# Altium schematic symbol library smartcar_lib.SchLib: 101 symbols
Pins are listed as number, name and electrical type; pins without a type are passive.

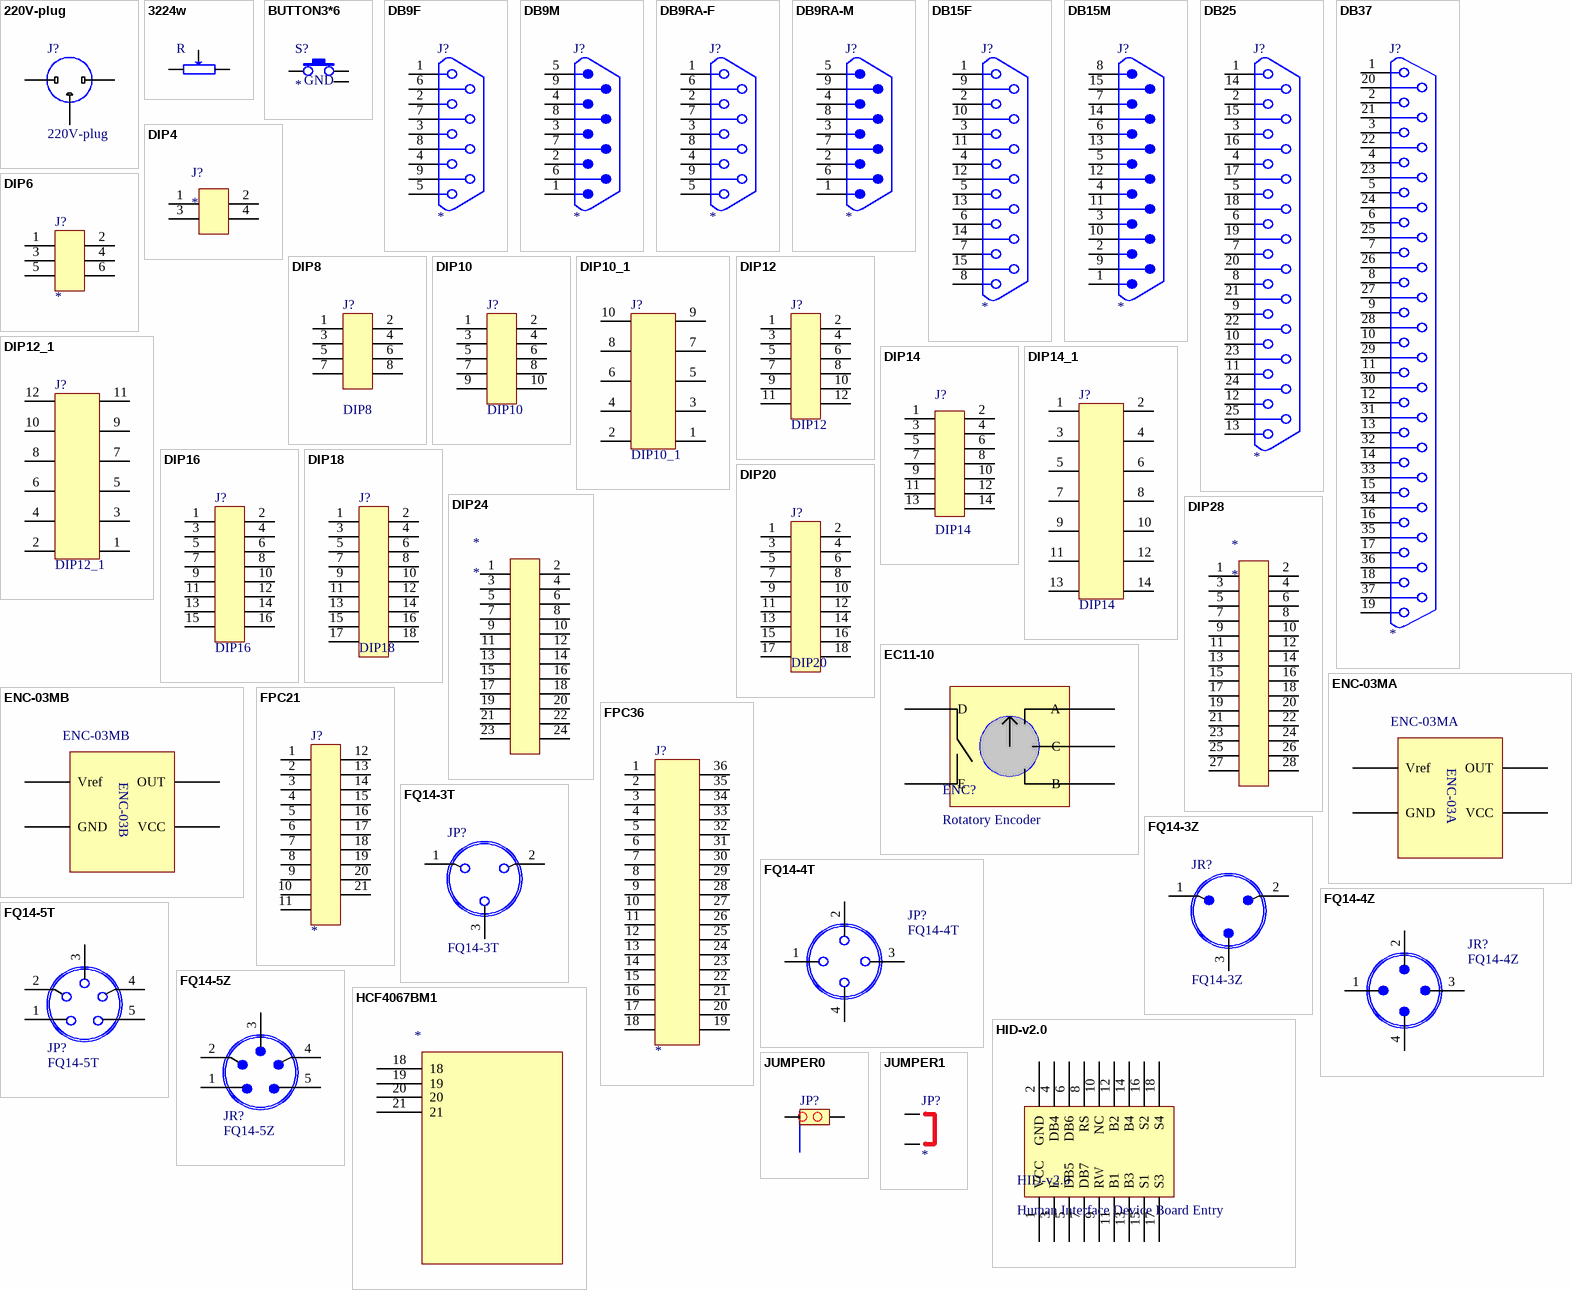
[diagram p0: symbols 220V-plug to JUMPER1]

## 220V-plug
designator J?
pins: 1, 2, 3

## 3224w
designator R, comment R  (value not drawn)
footprint 3224w
footprint 3303x
pins: 1, 2, 3

## BUTTON3*6
designator S?
footprint BUTTON3*6
pins: 1, 2, 3
text: GND

## DB9F
designator J?
jointbar
footprint DB9F
pins: 1, 2, 3, 4, 5, 6, 7, 8, 9

## DB9M
designator J?
jointbar
footprint DB9M
pins: 1 5, 2 4, 3, 4 2, 5 1, 6 9, 7 8, 8 7, 9 6

## DB9RA-F
designator J?
jointbar
footprint DB9RA-F
pins: 1, 2, 3, 4, 5, 6, 7, 8, 9

## DB9RA-M
designator J?
jointbar
footprint DB9RA-M
pins: 1 5, 2 4, 3, 4 2, 5 1, 6 9, 7 8, 8 7, 9 6

## DB15F
designator J?
jointbar
footprint DB15F
pins: 1, 2, 3, 4, 5, 6, 7, 8, 9, 10, 11, 12, 13, 14, 15

## DB15M
designator J?
jointbar
footprint DB15M
pins: 1, 2, 3, 4, 5, 6, 7, 8, 9, 10, 11, 12, 13, 14, 15

## DB25
designator J?
footprint DB-25/M
pins: 1, 2, 3, 4, 5, 6, 7, 8, 9, 10, 11, 12, 13, 14, 15, 16, 17, 18, 19, 20, 21, 22, 23, 24, 25

## DB37
designator J?
footprint DB-37/M
pins: 1, 2, 3, 4, 5, 6, 7, 8, 9, 10, 11, 12, 13, 14, 15, 16, 17, 18, 19, 20, 21, 22, 23, 24, 25, 26, 27, 28, 29, 30, 31, 32, 33, 34, 35, 36, 37

## DIP4
designator J?
footprint DIP4-2.54
pins: 1, 2, 3, 4

## DIP6
designator J?
jointbar
footprint DIP6-2.54
pins: 1, 2, 3, 4, 5, 6

## DIP8
designator J?
Connectors; Set Position: 0.5; Published: 8-Jun-2000; LatestRevisionDate: 17-Jul-2002; LatestRevisionNote: Re-released for DXP Platform.; PackageReference: AXIAL-0.6; Publisher: Altium Limited
footprint DIP8-2.54 (Footprint not found)
pins: 1, 2, 3, 4, 5, 6, 7, 8

## DIP10
designator J?
Connectors; Set Position: 0.5; Published: 8-Jun-2000; LatestRevisionDate: 17-Jul-2002; LatestRevisionNote: Re-released for DXP Platform.; PackageReference: AXIAL-0.6; Publisher: Altium Limited
footprint DIP10-2.54
pins: 1, 2, 3, 4, 5, 6, 7, 8, 9, 10

## DIP10_1
designator J?
Connectors; Set Position: 0.5; Published: 8-Jun-2000; LatestRevisionDate: 17-Jul-2002; LatestRevisionNote: Re-released for DXP Platform.; PackageReference: AXIAL-0.6; Publisher: Altium Limited
simulation model VRES (Variable Resistor)
signal-integrity model Res Adj
footprint DIP14-2.54
pins: 1, 2, 3, 4, 5, 6, 7, 8, 9, 10

## DIP12
designator J?
Connectors; Set Position: 0.5; Published: 8-Jun-2000; LatestRevisionDate: 17-Jul-2002; LatestRevisionNote: Re-released for DXP Platform.; PackageReference: AXIAL-0.6; Publisher: Altium Limited
simulation model VRES (Variable Resistor)
signal-integrity model Res Adj
footprint DIP12-2.54
pins: 1, 2, 3, 4, 5, 6, 7, 8, 9, 10, 11, 12

## DIP12_1
designator J?
Connectors; Set Position: 0.5; Published: 8-Jun-2000; LatestRevisionDate: 17-Jul-2002; LatestRevisionNote: Re-released for DXP Platform.; PackageReference: AXIAL-0.6; Publisher: Altium Limited
simulation model VRES (Variable Resistor)
signal-integrity model Res Adj
footprint DIP14-2.54
pins: 1, 2, 3, 4, 5, 6, 7, 8, 9, 10, 11, 12

## DIP14
designator J?
Connectors; Set Position: 0.5; Published: 8-Jun-2000; LatestRevisionDate: 17-Jul-2002; LatestRevisionNote: Re-released for DXP Platform.; PackageReference: AXIAL-0.6; Publisher: Altium Limited
simulation model VRES (Variable Resistor)
signal-integrity model Res Adj
footprint DIP14-2.54
pins: 1, 2, 3, 4, 5, 6, 7, 8, 9, 10, 11, 12, 13, 14

## DIP14_1
designator J?, comment DIP14
Connectors; Set Position: 0.5; Published: 8-Jun-2000; LatestRevisionDate: 17-Jul-2002; LatestRevisionNote: Re-released for DXP Platform.; PackageReference: AXIAL-0.6; Publisher: Altium Limited
simulation model VRES (Variable Resistor)
signal-integrity model Res Adj
footprint DIP14-2.54
pins: 1, 2, 3, 4, 5, 6, 7, 8, 9, 10, 11, 12, 13, 14

## DIP16
designator J?
Connectors; Set Position: 0.5; Published: 8-Jun-2000; LatestRevisionDate: 17-Jul-2002; LatestRevisionNote: Re-released for DXP Platform.; PackageReference: AXIAL-0.6; Publisher: Altium Limited
simulation model VRES (Variable Resistor)
signal-integrity model Res Adj
footprint DIP16-2.54
pins: 1, 2, 3, 4, 5, 6, 7, 8, 9, 10, 11, 12, 13, 14, 15, 16

## DIP18
designator J?
Connectors; Set Position: 0.5; Published: 8-Jun-2000; LatestRevisionDate: 17-Jul-2002; LatestRevisionNote: Re-released for DXP Platform.; PackageReference: AXIAL-0.6; Publisher: Altium Limited
simulation model VRES (Variable Resistor)
signal-integrity model Res Adj
footprint DIP18-2.54 (Footprint not found)
pins: 1, 2, 3, 4, 5, 6, 7, 8, 9, 10, 11, 12, 13, 14, 15, 16, 17, 18

## DIP20
designator J?
Connectors; Set Position: 0.5; Published: 8-Jun-2000; LatestRevisionDate: 17-Jul-2002; LatestRevisionNote: Re-released for DXP Platform.; PackageReference: AXIAL-0.6; Publisher: Altium Limited
simulation model VRES (Variable Resistor)
signal-integrity model Res Adj
footprint DIP20-2.54
pins: 1, 2, 3, 4, 5, 6, 7, 8, 9, 10, 11, 12, 13, 14, 15, 16, 17, 18

## DIP24
designator *
footprint DIP24-2.54
pins: 1, 2, 3, 4, 5, 6, 7, 8, 9, 10, 11, 12, 13, 14, 15, 16, 17, 18, 19, 20, 21, 22, 23, 24

## DIP28
designator *
Connectors
footprint DIP28-2.54
pins: 1, 2, 3, 4, 5, 6, 7, 8, 9, 10, 11, 12, 13, 14, 15, 16, 17, 18, 19, 20, 21, 22, 23, 24, 25, 26, 27, 28

## EC11-10
designator ENC?, comment Rotatory Encoder
footprint EC11-10
pins: A, B, C, D, E

## ENC-03MA
designator ENC-03MA  (value not drawn)
footprint ENC-03MA
pins: 1 Vref, 2 GND, 3 VCC, 4 OUT
text: ENC-03A

## ENC-03MB
designator ENC-03MB  (value not drawn)
footprint ENC-03MB
pins: 1 Vref, 2 GND, 3 VCC, 4 OUT
text: ENC-03B

## FPC21
designator J?
jointbar
footprint FPC21-0.5
pins: 1, 2, 3, 4, 5, 6, 7, 8, 9, 10  10, 11  11, 12, 13, 14, 15, 16, 17, 18, 19, 20, 21

## FPC36
designator J?
jointbar
footprint FPC36-0.8
pins: 1, 2, 3, 4, 5, 6, 7, 8, 9, 10, 11, 12, 13, 14, 15, 16, 17, 18, 19, 20, 21, 22, 23, 24, 25, 26, 27, 28, 29, 30, 31, 32, 33, 34, 35, 36

## FQ14-3T
designator JP?
Connectors; Set Position: 0.5; Published: 8-Jun-2000; LatestRevisionDate: 17-Jul-2002; LatestRevisionNote: Re-released for DXP Platform.; PackageReference: AXIAL-0.6; Publisher: Altium Limited
footprint AXIAL-0.6 (Variable Resistor; 2 Leads)
simulation model VRES (Variable Resistor)
signal-integrity model Res Adj
pins: 1, 2, 3

## FQ14-3Z
designator JR?
Connectors; Set Position: 0.5; Published: 8-Jun-2000; LatestRevisionDate: 17-Jul-2002; LatestRevisionNote: Re-released for DXP Platform.; PackageReference: AXIAL-0.6; Publisher: Altium Limited
footprint AXIAL-0.6 (Variable Resistor; 2 Leads)
simulation model VRES (Variable Resistor)
signal-integrity model Res Adj
pins: 1, 2, 3

## FQ14-4T
designator JP?
connectors; Set Position: 0.5; Published: 8-Jun-2000; LatestRevisionDate: 17-Jul-2002; LatestRevisionNote: Re-released for DXP Platform.; PackageReference: AXIAL-0.6; Publisher: Altium Limited
footprint AXIAL-0.6 (Variable Resistor; 2 Leads)
simulation model VRES (Variable Resistor)
signal-integrity model Res Adj
pins: 1, 2, 3, 4

## FQ14-4Z
designator JR?
connectors; Set Position: 0.5; Published: 8-Jun-2000; LatestRevisionDate: 17-Jul-2002; LatestRevisionNote: Re-released for DXP Platform.; PackageReference: AXIAL-0.6; Publisher: Altium Limited
footprint AXIAL-0.6 (Variable Resistor; 2 Leads)
simulation model VRES (Variable Resistor)
signal-integrity model Res Adj
pins: 1, 2, 3, 4

## FQ14-5T
designator JP?
connectors; Set Position: 0.5; Published: 8-Jun-2000; LatestRevisionDate: 17-Jul-2002; LatestRevisionNote: Re-released for DXP Platform.; PackageReference: AXIAL-0.6; Publisher: Altium Limited
footprint AXIAL-0.6 (Variable Resistor; 2 Leads)
simulation model VRES (Variable Resistor)
signal-integrity model Res Adj
pins: 1, 2, 3, 4, 5

## FQ14-5Z
designator JR?
connectors; Set Position: 0.5; Published: 8-Jun-2000; LatestRevisionDate: 17-Jul-2002; LatestRevisionNote: Re-released for DXP Platform.; PackageReference: AXIAL-0.6; Publisher: Altium Limited
footprint AXIAL-0.6 (Variable Resistor; 2 Leads)
simulation model VRES (Variable Resistor)
signal-integrity model Res Adj
pins: 1, 2, 3, 4, 5

## HCF4067BM1
designator *  (value not drawn)
pins: 18, 19, 20, 21

## HID-v2.0
designator HID-v2.0, comment Human Interface Device Board Entry
HID-v2.0
footprint HID-v2.0 (Connector; Header; 9x2 Position)
pins: 1 VCC, 2 GND, 3 E, 4 DB4, 5 DB5, 6 DB6, 7 DB7, 8 RS, 9 RW, 10 NC, 11 B1, 12 B2, 13 B3, 14 B4, 15 S1, 16 S2, 17 S3, 18 S4

## JUMPER0
designator JP?
footprint SIP2-2.54
pins: 1, 2

## JUMPER1
designator JP?
Jumper
footprint RAD0.2
pins: 1, 2

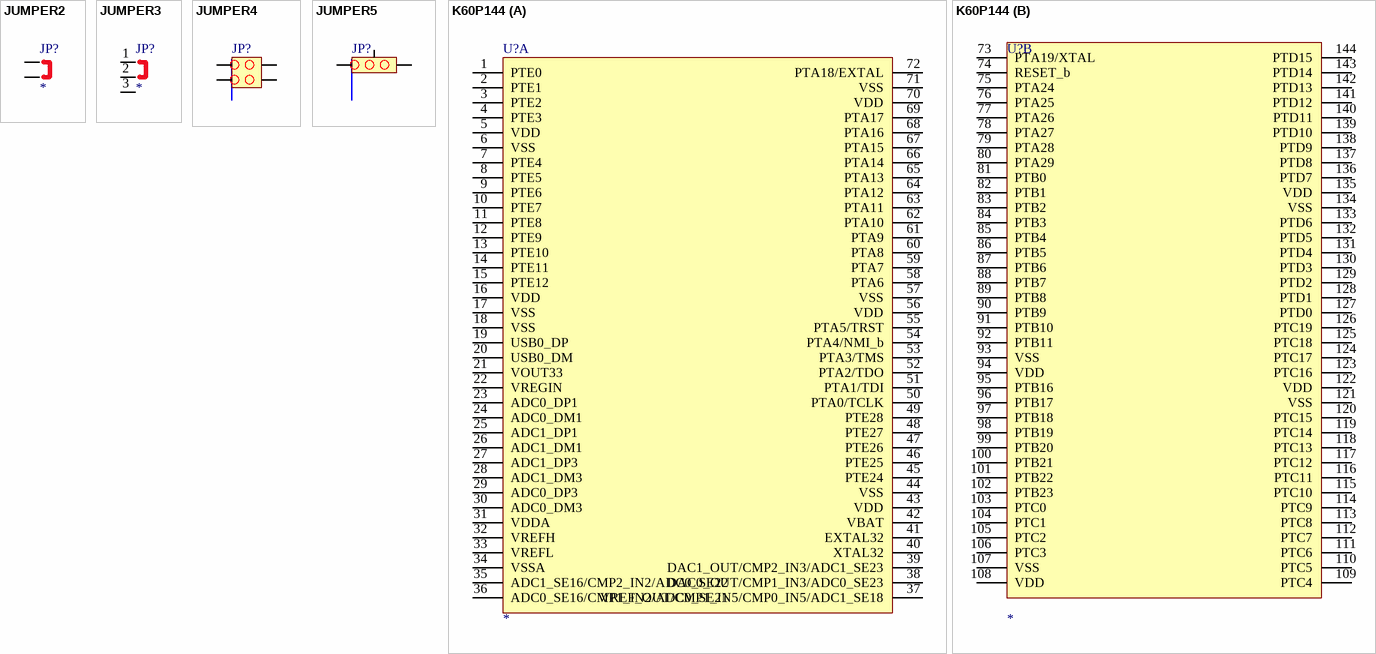
[diagram p1: symbols JUMPER2 to K60P144]

## JUMPER2
designator JP?
Jumper
footprint RAD0.2
pins: 1, 2

## JUMPER3
designator JP?
Jumper
footprint SIP3-2.54
pins: 1, 2, 3

## JUMPER4
designator JP?
footprint DIP4-2.54 (Footprint not found)
pins: 1, 2, 3, 4

## JUMPER5
designator JP?
footprint SIP3-2.54
pins: 1, 2, 3

## K60P144
designator U?
footprint LQ_LQFP144
part A pins: 1 PTE0, 2 PTE1, 3 PTE2, 4 PTE3, 5 VDD, 6 VSS, 7 PTE4, 8 PTE5, 9 PTE6, 10 PTE7, 11 PTE8, 12 PTE9, 13 PTE10, 14 PTE11, 15 PTE12, 16 VDD, 17 VSS, 18 VSS, 19 USB0_DP, 20 USB0_DM, 21 VOUT33, 22 VREGIN, 23 ADC0_DP1, 24 ADC0_DM1, 25 ADC1_DP1, 26 ADC1_DM1, 27 ADC1_DP3, 28 ADC1_DM3, 29 ADC0_DP3, 30 ADC0_DM3, 31 VDDA, 32 VREFH, 33 VREFL, 34 VSSA, 35 ADC1_SE16/CMP2_IN2/ADC0_SE22, 36 ADC0_SE16/CMP1_IN2/ADC0_SE21, 37 VREF_OUT/CMP1_IN5/CMP0_IN5/ADC1_SE18, 38 DAC0_OUT/CMP1_IN3/ADC0_SE23, 39 DAC1_OUT/CMP2_IN3/ADC1_SE23, 40 XTAL32, 41 EXTAL32, 42 VBAT, 43 VDD, 44 VSS, 45 PTE24, 46 PTE25, 47 PTE26, 48 PTE27, 49 PTE28, 50 PTA0/TCLK, 51 PTA1/TDI, 52 PTA2/TDO, 53 PTA3/TMS, 54 PTA4/NMI_b, 55 PTA5/TRST, 56 VDD, 57 VSS, 58 PTA6, 59 PTA7, 60 PTA8, 61 PTA9, 62 PTA10, 63 PTA11, 64 PTA12, 65 PTA13, 66 PTA14, 67 PTA15, 68 PTA16, 69 PTA17, 70 VDD, 71 VSS, 72 PTA18/EXTAL
part B pins: 73 PTA19/XTAL, 74 RESET_b, 75 PTA24, 76 PTA25, 77 PTA26, 78 PTA27, 79 PTA28, 80 PTA29, 81 PTB0, 82 PTB1, 83 PTB2, 84 PTB3, 85 PTB4, 86 PTB5, 87 PTB6, 88 PTB7, 89 PTB8, 90 PTB9, 91 PTB10, 92 PTB11, 93 VSS, 94 VDD, 95 PTB16, 96 PTB17, 97 PTB18, 98 PTB19, 99 PTB20, 100 PTB21, 101 PTB22, 102 PTB23, 103 PTC0, 104 PTC1, 105 PTC2, 106 PTC3, 107 VSS, 108 VDD, 109 PTC4, 110 PTC5, 111 PTC6, 112 PTC7, 113 PTC8, 114 PTC9, 115 PTC10, 116 PTC11, 117 PTC12, 118 PTC13, 119 PTC14, 120 PTC15, 121 VSS, 122 VDD, 123 PTC16, 124 PTC17, 125 PTC18, 126 PTC19, 127 PTD0, 128 PTD1, 129 PTD2, 130 PTD3, 131 PTD4, 132 PTD5, 133 PTD6, 134 VSS, 135 VDD, 136 PTD7, 137 PTD8, 138 PTD9, 139 PTD10, 140 PTD11, 141 PTD12, 142 PTD13, 143 PTD14, 144 PTD15

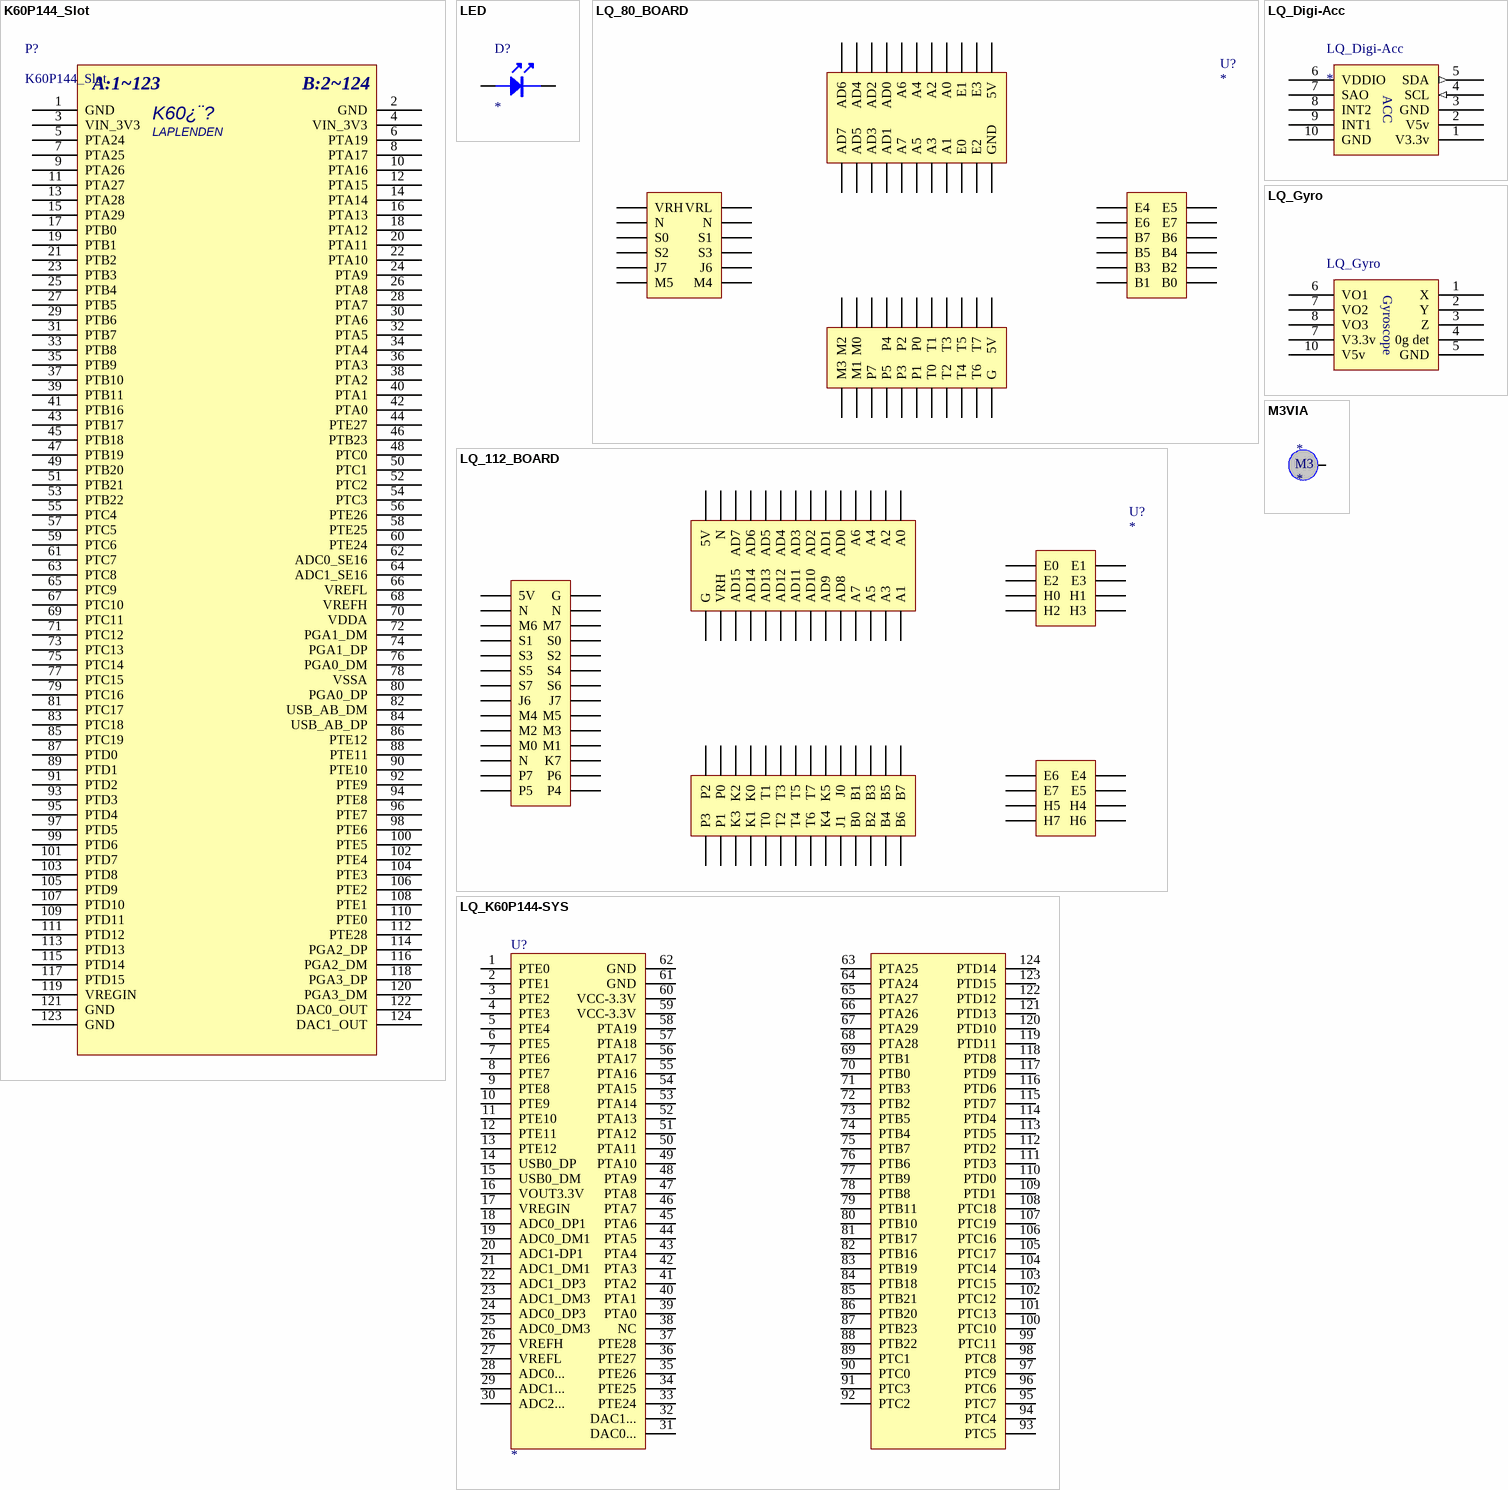
[diagram p2: symbols K60P144_Slot to M3VIA]

## K60P144_Slot
designator P?
footprint K60P144_Slot
pins: 1 GND, 2 GND, 3 VIN_3V3, 4 VIN_3V3, 5 PTA24, 6 PTA19, 7 PTA25, 8 PTA17, 9 PTA26, 10 PTA16, 11 PTA27, 12 PTA15, 13 PTA28, 14 PTA14, 15 PTA29, 16 PTA13, 17 PTB0, 18 PTA12, 19 PTB1, 20 PTA11, 21 PTB2, 22 PTA10, 23 PTB3, 24 PTA9, 25 PTB4, 26 PTA8, 27 PTB5, 28 PTA7, 29 PTB6, 30 PTA6, 31 PTB7, 32 PTA5, 33 PTB8, 34 PTA4, 35 PTB9, 36 PTA3, 37 PTB10, 38 PTA2, 39 PTB11, 40 PTA1, 41 PTB16, 42 PTA0, 43 PTB17, 44 PTE27, 45 PTB18, 46 PTB23, 47 PTB19, 48 PTC0, 49 PTB20, 50 PTC1, 51 PTB21, 52 PTC2, 53 PTB22, 54 PTC3, 55 PTC4, 56 PTE26, 57 PTC5, 58 PTE25, 59 PTC6, 60 PTE24, 61 PTC7, 62 ADC0_SE16, 63 PTC8, 64 ADC1_SE16, 65 PTC9, 66 VREFL, 67 PTC10, 68 VREFH, 69 PTC11, 70 VDDA, 71 PTC12, 72 PGA1_DM, 73 PTC13, 74 PGA1_DP, 75 PTC14, 76 PGA0_DM, 77 PTC15, 78 VSSA, 79 PTC16, 80 PGA0_DP, 81 PTC17, 82 USB_AB_DM, 83 PTC18, 84 USB_AB_DP, 85 PTC19, 86 PTE12, 87 PTD0, 88 PTE11, 89 PTD1, 90 PTE10, 91 PTD2, 92 PTE9, 93 PTD3, 94 PTE8, 95 PTD4, 96 PTE7, 97 PTD5, 98 PTE6, 99 PTD6, 100 PTE5, 101 PTD7, 102 PTE4, 103 PTD8, 104 PTE3, 105 PTD9, 106 PTE2, 107 PTD10, 108 PTE1, 109 PTD11, 110 PTE0, 111 PTD12, 112 PTE28, 113 PTD13, 114 PGA2_DP, 115 PTD14, 116 PGA2_DM, 117 PTD15, 118 PGA3_DP, 119 VREGIN, 120 PGA3_DM, 121 GND, 122 DAC0_OUT, 123 GND, 124 DAC1_OUT
text: A:1~123; B:2~124; K60¿¨?; LAPLENDEN

## LED
designator D?
footprint DIODE0.4A
pins: 1, 2

## LQ_80_BOARD
designator U?
LQ_80_BOARD
footprint LQ_80_BOARD
pins: 101 M3, 102 M2, 103 M1, 104 M0, 105 P7, 106, 107 P5, 108 P4, 109 P3, 110 P2, 111 P1, 112 P0, 113 T0, 114 T1, 115 T2, 116 T3, 117 T4, 118 T5, 119 T6, 120 T7, 121 G, 122 5V, 201 VRH, 202 VRL, 203 N, 204 N, 205 S0, 206 S1, 207 S2, 208 S3, 209 J7, 210 J6, 211 M5, 212 M4, 301 5V, 302 GND, 303 E3, 304 E2, 305 E1, 306 E0, 307 A0, 308 A1, 309 A2, 310 A3, 311 A4, 312 A5, 313 A6, 314 A7, 315 AD0, 316 AD1, 317 AD2, 318 AD3, 319 AD4, 320 AD5, 321 AD6, 322 AD7, 401 B0, 402 B1, 403 B2, 404 B3, 405 B4, 406 B5, 407 B6, 408 B7, 409 E7, 410 E6, 411 E5, 412 E4

## LQ_112_BOARD
designator U?
LQ_112_BOARD
footprint LQ_112_BOARD
pins: 101 P3, 102 P2, 103 P1, 104 P0, 105 K3, 106 K2, 107 K1, 108 K0, 109 T0, 110 T1, 111 T2, 112 T3, 113 T4, 114 T5, 115 T6, 116 T7, 117 K4, 118 K5, 119 J1, 120 J0, 121 B0, 122 B1, 123 B2, 124 B3, 125 B4, 126 B5, 127 B6, 128 B7, 201 5V, 202 G, 203 N, 204 N, 205 M6, 206 M7, 207 S1, 208 S0, 209 S3, 210 S2, 211 S5, 212 S4, 213 S7, 214 S6, 215 J6, 216 J7, 217 M4, 218 M5, 219 M2, 220 M3, 221 M0, 222 M1, 223 N, 224 K7, 225 P7, 226 P6, 227 P5, 228 P4, 301 A0, 302 A1, 303 A2, 304 A3, 305 A4, 306 A5, 307 A6, 308 A7, 309 AD0, 310 AD8, 311 AD1, 312 AD9, 313 AD2, 314 AD10, 315 AD3, 316 AD11, 317 AD4, 318 AD12, 319 AD5, 320 AD13, 321 AD6, 322 AD14, 323 AD7, 324 AD15, 325 N, 326 VRH, 327 5V, 328 G, 401 H6, 402 H7, 403 H4, 404 H5, 405 E5, 406 E7, 407 E4, 408 E6, 501 H3, 502 H2, 503 H1, 504 H0, 505 E3, 506 E2, 507 E1, 508 E0

## LQ_Digi-Acc
designator LQ_Digi-Acc
LQ_Digi-Acc
footprint LQ_Digi-Acc
pins: 1 V3.3v, 2 V5v, 3 GND (power), 4 SCL (in), 5 SDA (out), 6 VDDIO, 7 SAO, 8 INT2, 9 INT1, 10 GND
text: ACC

## LQ_Gyro
designator LQ_Gyro  (value not drawn)
footprint LQ_Gyro
pins: 1 X, 2 Y, 3 Z, 4 0g det, 5 GND, 6 VO1, 7 VO2, 7 V3.3v, 8 VO3, 10 V5v
text: Gyroscope

## LQ_K60P144-SYS
designator U?
footprint LQ_K60P144-SYS
pins: 1 PTE0, 2 PTE1, 3 PTE2, 4 PTE3, 5 PTE4, 6 PTE5, 7 PTE6, 8 PTE7, 9 PTE8, 10 PTE9, 11 PTE10, 12 PTE11, 13 PTE12, 14 USB0_DP, 15 USB0_DM, 16 VOUT3.3V, 17 VREGIN, 18 ADC0_DP1, 19 ADC0_DM1, 20 ADC1-DP1, 21 ADC1_DM1, 22 ADC1_DP3, 23 ADC1_DM3, 24 ADC0_DP3, 25 ADC0_DM3, 26 VREFH, 27 VREFL, 28 ADC0..., 29 ADC1..., 30 ADC2..., 31 DAC0..., 32 DAC1..., 33 PTE24, 34 PTE25, 35 PTE26, 36 PTE27, 37 PTE28, 38 NC, 39 PTA0, 40 PTA1, 41 PTA2, 42 PTA3, 43 PTA4, 44 PTA5, 45 PTA6, 46 PTA7, 47 PTA8, 48 PTA9, 49 PTA10, 50 PTA11, 51 PTA12, 52 PTA13, 53 PTA14, 54 PTA15, 55 PTA16, 56 PTA17, 57 PTA18, 58 PTA19, 59 VCC-3.3V, 60 VCC-3.3V, 61 GND, 62 GND, 63 PTA25, 64 PTA24, 65 PTA27, 66 PTA26, 67 PTA29, 68 PTA28, 69 PTB1, 70 PTB0, 71 PTB3, 72 PTB2, 73 PTB5, 74 PTB4, 75 PTB7, 76 PTB6, 77 PTB9, 78 PTB8, 79 PTB11, 80 PTB10, 81 PTB17, 82 PTB16, 83 PTB19, 84 PTB18, 85 PTB21, 86 PTB20, 87 PTB23, 88 PTB22, 89 PTC1, 90 PTC0, 91 PTC3, 92 PTC2, 93 PTC5, 94 PTC4, 95 PTC7, 96 PTC6, 97 PTC9, 98 PTC8, 99 PTC11, 100 PTC10, 101 PTC13, 102 PTC12, 103 PTC15, 104 PTC14, 105 PTC17, 106 PTC16, 107 PTC19, 108 PTC18, 109 PTD1, 110 PTD0, 111 PTD3, 112 PTD2, 113 PTD5, 114 PTD4, 115 PTD7, 116 PTD6, 117 PTD9, 118 PTD8, 119 PTD11, 120 PTD10, 121 PTD13, 122 PTD12, 123 PTD15, 124 PTD14

## M3VIA
designator *
footprint gudingkong
footprint gudingkong01
pins: 0
text: M3

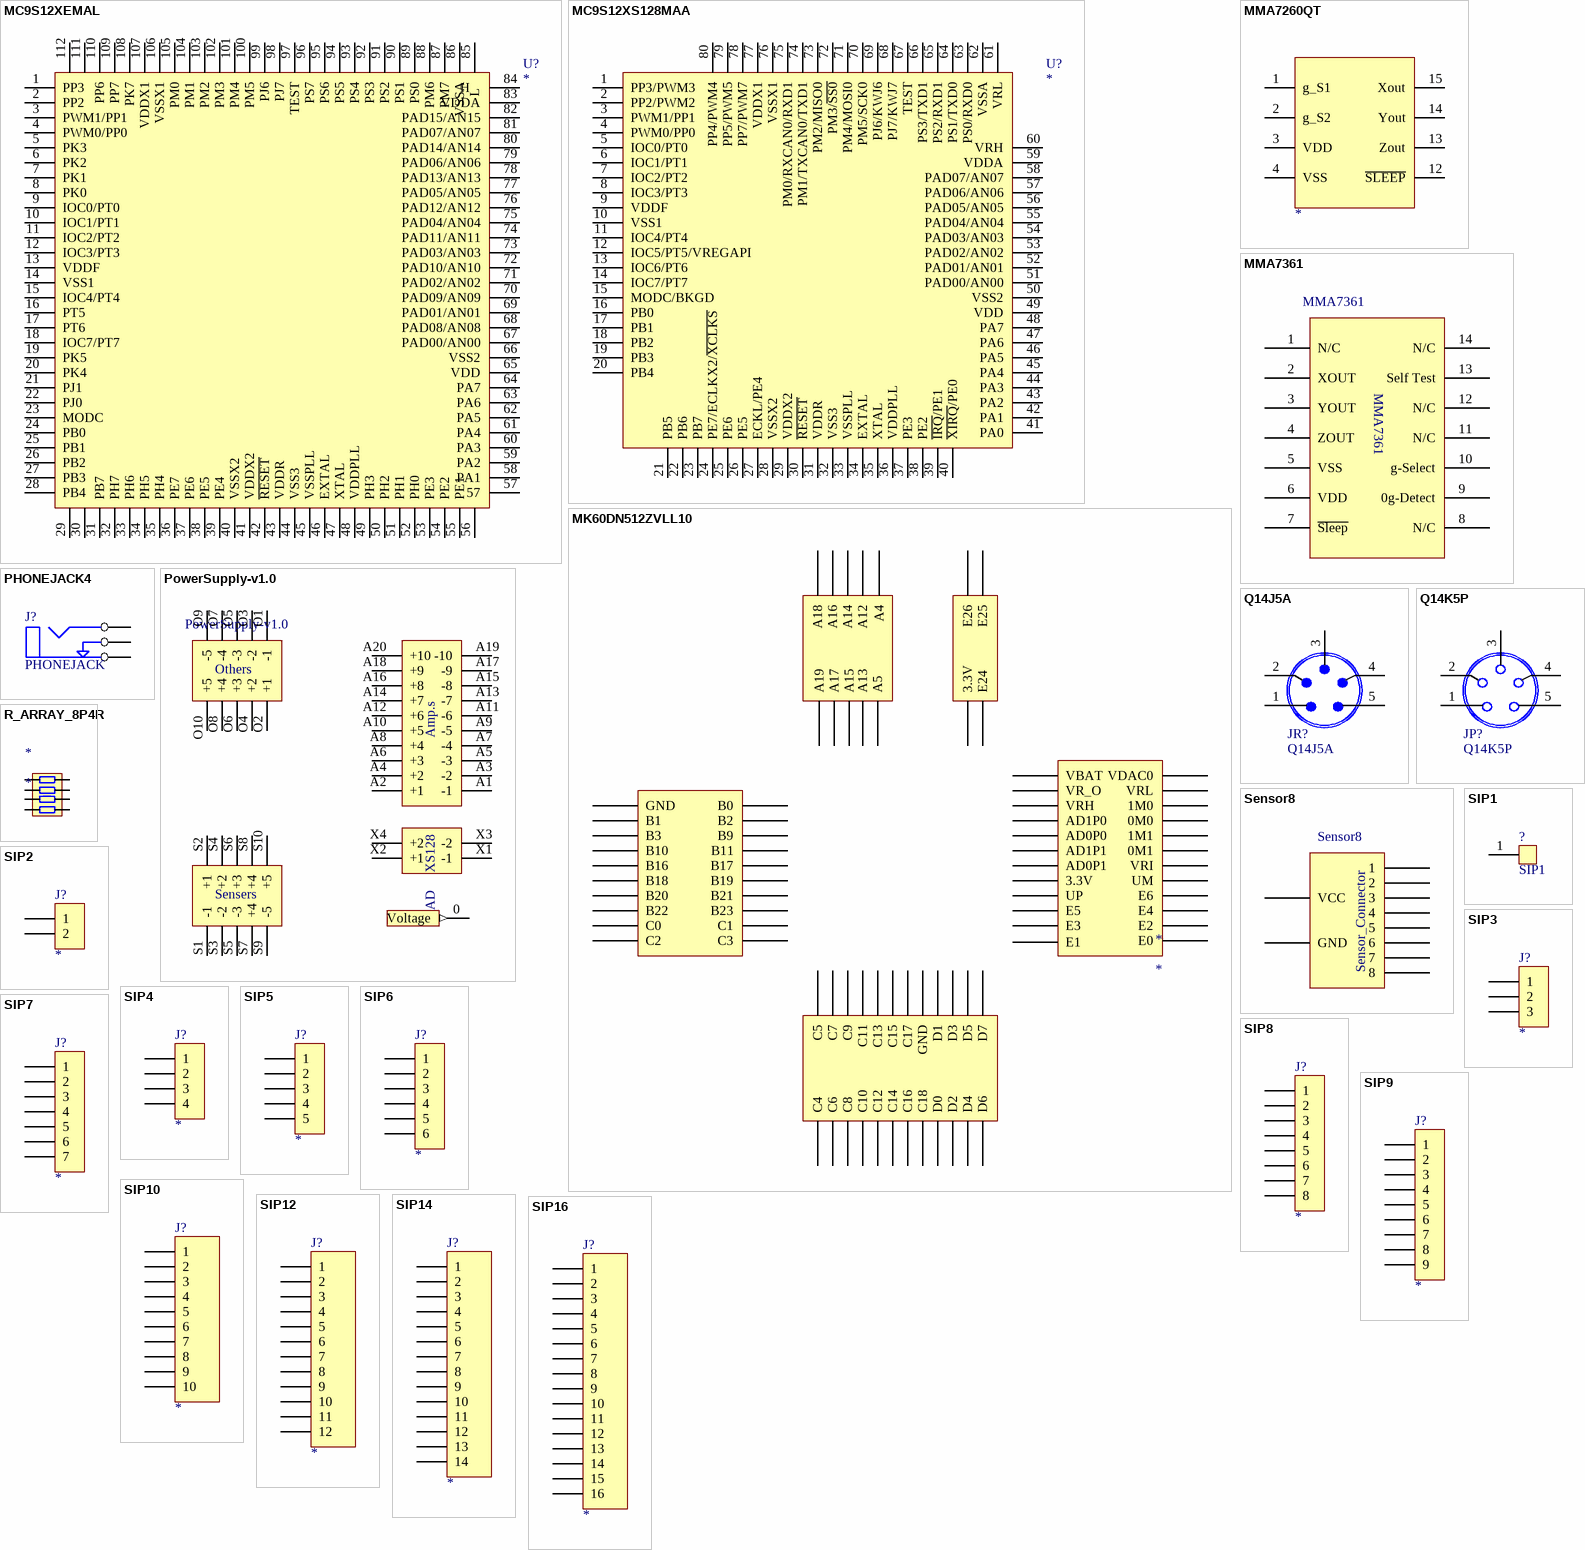
[diagram p3: symbols MC9S12XEMAL to SIP16]

## MC9S12XEMAL
designator U?
MC9S12XEMAL
footprint LQ_LQFP112
pins: 1 PP3, 2 PP2, 3 PWM1/PP1, 4 PWM0/PP0, 5 PK3, 6 PK2, 7 PK1, 8 PK0, 9 IOC0/PT0, 10 IOC1/PT1, 11 IOC2/PT2, 12 IOC3/PT3, 13 VDDF, 14 VSS1, 15 IOC4/PT4, 16 PT5, 17 PT6, 18 IOC7/PT7, 19 PK5, 20 PK4, 21 PJ1, 22 PJ0, 23 MODC, 24 PB0, 25 PB1, 26 PB2, 27 PB3, 28 PB4, 29, 30, 31 PB7, 32 PH7, 33 PH6, 34 PH5, 35 PH4, 36 PE7, 37 PE6, 38 PE5, 39 PE4, 40 VSSX2, 41 VDDX2, 42 ~{RESET}, 43 VDDR, 44 VSS3, 45 VSSPLL, 46 EXTAL, 47 XTAL, 48 VDDPLL, 49 PH3, 50 PH2, 51 PH1, 52 PH0, 53 PE3, 54 PE2, 55 PE1, 56, 57, 58 PA1, 59 PA2, 60 PA3, 61 PA4, 62 PA5, 63 PA6, 64 PA7, 65 VDD, 66 VSS2, 67 PAD00/AN00, 68 PAD08/AN08, 69 PAD01/AN01, 70 PAD09/AN09, 71 PAD02/AN02, 72 PAD10/AN10, 73 PAD03/AN03, 74 PAD11/AN11, 75 PAD04/AN04, 76 PAD12/AN12, 77 PAD05/AN05, 78 PAD13/AN13, 79 PAD06/AN06, 80 PAD14/AN14, 81 PAD07/AN07, 82 PAD15/AN15, 83 VDDA, 84 H   , 85 L  , 86 VSSA, 87 PM7, 88 PM6, 89 PS0, 90 PS1, 91 PS2, 92 PS3, 93 PS4, 94 PS5, 95 PS6, 96 PS7, 97 TEST, 98 PJ7, 99 PJ6, 100 PM5, 101 PM4, 102 PM3, 103 PM2, 104 PM1, 105 PM0, 106 VSSX1, 107 VDDX1, 108 PK7, 109 PP7, 110 PP6, 111, 112

## MC9S12XS128MAA
designator U?
footprint LQ_LQFP80
pins: 1 PP3/PWM3, 2 PP2/PWM2, 3 PWM1/PP1, 4 PWM0/PP0, 5 IOC0/PT0, 6 IOC1/PT1, 7 IOC2/PT2, 8 IOC3/PT3, 9 VDDF, 10 VSS1, 11 IOC4/PT4, 12 IOC5/PT5/VREGAPI, 13 IOC6/PT6, 14 IOC7/PT7, 15 MODC/BKGD, 16 PB0, 17 PB1, 18 PB2, 19 PB3, 20 PB4, 21 PB5, 22 PB6, 23 PB7, 24 PE7/ECLKX2/~{XCLKS}, 25 PE6, 26 PE5, 27 ECKL/PE4, 28 VSSX2, 29 VDDX2, 30 ~{RESET}, 31 VDDR, 32 VSS3, 33 VSSPLL, 34 EXTAL, 35 XTAL, 36 VDDPLL, 37 PE3, 38 PE2, 39 ~{IRQ}/PE1, 40 ~{XIRQ}/PE0, 41 PA0, 42 PA1, 43 PA2, 44 PA3, 45 PA4, 46 PA5, 47 PA6, 48 PA7, 49 VDD, 50 VSS2, 51 PAD00/AN00, 52 PAD01/AN01, 53 PAD02/AN02, 54 PAD03/AN03, 55 PAD04/AN04, 56 PAD05/AN05, 57 PAD06/AN06, 58 PAD07/AN07, 59 VDDA, 60 VRH, 61 VRL, 62 VSSA, 63 PS0/RXD0, 64 PS1/TXD0, 65 PS2/RXD1, 66 PS3/TXD1, 67 TEST, 68 PJ7/KWJ7, 69 PJ6/KWJ6, 70 PM5/SCK0, 71 PM4/MOSI0, 72 PM3/~{SS0}, 73 PM2/MISO0, 74 PM1/TXCAN0/TXD1, 75 PM0/RXCAN0/RXD1, 76 VSSX1, 77 VDDX1, 78 PP7/PWM7, 79 PP5/PWM5, 80 PP4/PWM4

## MK60DN512ZVLL10
designator *
footprint MK60DN512ZVLL10
pins: 1 E0, 2 E1, 3 E2, 4 E3, 5 E4, 6 E5, 7 E6, 8 UP, 9 UM, 10 3.3V, 11 VRI, 12 AD0P1, 13 0M1, 14 AD1P1, 15 1M1, 16 AD0P0, 17 0M0, 18 AD1P0, 19 1M0, 20 VRH, 21 VRL, 22 VR_O, 23 VDAC0, 24 VBAT, 25 E24, 26 E25, 27 3.3V, 28 E26, 29 A5, 30 A4, 31 A13, 32 A12, 33 A15, 34 A14, 35 A17, 36 A16, 37 A19, 38 A18, 39 GND, 40 B0, 41 B1, 42 B2, 43 B3, 44 B9, 45 B10, 46 B11, 47 B16, 48 B17, 49 B18, 50 B19, 51 B20, 52 B21, 53 B22, 54 B23, 55 C0, 56 C1, 57 C2, 58 C3, 59 C4, 60 C5, 61 C6, 62 C7, 63 C8, 64 C9, 65 C10, 66 C11, 67 C12, 68 C13, 69 C14, 70 C15, 71 C16, 72 C17, 73 C18, 74 GND, 75 D0, 76 D1, 77 D2, 78 D3, 79 D4, 80 D5, 81 D6, 82 D7

## MMA7260QT
designator ?
pins: 1 g_S1, 2 g_S2, 3 VDD, 4 VSS, 12 ~{SLEEP}, 13 Zout, 14 Yout, 15 Xout

## MMA7361
designator MMA7361  (value not drawn)
footprint MMA7361
pins: 1 N/C, 2 XOUT, 3 YOUT, 4 ZOUT, 5 VSS, 6 VDD, 7 ~{Sleep}, 8 N/C, 9 0g-Detect, 10 g-Select, 11 N/C, 12 N/C, 13 Self Test, 14 N/C

## PHONEJACK4
designator J?, comment PHONEJACK
footprint DS-313
pins: 1 A, 2 B, 3 C

## PowerSupply-v1.0
designator PowerSupply-v1.0  (value not drawn)
PowerSupply-v1.0
footprint PowerSupply-v1.0
pins: 0 Voltage (out), A1 -1 (power), A2 +1 (power), A3 -2 (power), A4 +2 (power), A5 -3 (power), A6 +3 (power), A7 -4 (power), A8 +4 (power), A9 -5 (power), A10 +5 (power), A11 -6 (power), A12 +6 (power), A13 -7 (power), A14 +7 (power), A15 -8 (power), A16 +8 (power), A17 -9 (power), A18 +9 (power), A19 -10 (power), A20 +10 (power), O1 -1, O2 +1 (power), O3 -2, O4 +2 (power), O5 -3 (power), O6 +3 (power), O7 -4 (power), O8 +4 (power), O9 -5 (power), O10 +5 (power), S1 -1 (power), S2 +1 (power), S3 -2 (power), S4 +2 (power), S5 -3 (power), S6 +3 (power), S7 +4 (power), S8 +4 (power), S9 -5 (power), S10 +5 (power), X1 -1 (power), X2 +1 (power), X3 -2 (power), X4 +2 (power)
text: Others; Amp.s; XS128; Sensers; AD

## Q14J5A
designator JR?
connectors; Set Position: 0.5; Published: 8-Jun-2000; LatestRevisionDate: 17-Jul-2002; LatestRevisionNote: Re-released for DXP Platform.; PackageReference: AXIAL-0.6; Publisher: Altium Limited
footprint AXIAL-0.6 (Variable Resistor; 2 Leads)
simulation model VRES (Variable Resistor)
signal-integrity model Res Adj
pins: 1, 2, 3, 4, 5

## Q14K5P
designator JP?
connectors; Set Position: 0.5; Published: 8-Jun-2000; LatestRevisionDate: 17-Jul-2002; LatestRevisionNote: Re-released for DXP Platform.; PackageReference: AXIAL-0.6; Publisher: Altium Limited
footprint AXIAL-0.6 (Variable Resistor; 2 Leads)
simulation model VRES (Variable Resistor)
signal-integrity model Res Adj
pins: 1, 2, 3, 4, 5

## R_ARRAY_8P4R
designator *
footprint R_ARRAY_8P4R
pins: 1, 2, 3, 4, 5, 6, 7, 8

## Sensor8
designator Sensor8, comment Connector  (value not drawn)
pins: 1, 2, 3, 4, 5, 6, 7, 8, 9 VCC, 10 GND
text: Sensor_Connector

## SIP1
designator ?
Variable Resistor; Set Position: 0.5; Published: 8-Jun-2000; LatestRevisionDate: 17-Jul-2002; LatestRevisionNote: Re-released for DXP Platform.; PackageReference: AXIAL-0.6; Publisher: Altium Limited
footprint AXIAL-0.6 (Variable Resistor; 2 Leads)
simulation model VRES (Variable Resistor)
signal-integrity model Res Adj
pins: 1

## SIP2
designator J?
jointbar
footprint SIP2-2.0
footprint SIP2-2.54
pins: 1, 2

## SIP3
designator J?
jointbar
footprint SIP3-2.0
footprint SIP3-2.54
pins: 1, 2, 3

## SIP4
designator J?
jointbar
footprint SIP4-2.0
footprint SIP4-2.54
pins: 1, 2, 3, 4

## SIP5
designator J?
jointbar
footprint SIP5-2.0
footprint SIP5-2.54
pins: 1, 2, 3, 4, 5

## SIP6
designator J?
jointbar
footprint SIP6-2.0
footprint SIP6-2.54
pins: 1, 2, 3, 4, 5, 6

## SIP7
designator J?
jointbar
footprint SIP7-2.0
footprint SIP7-2.54
pins: 1, 2, 3, 4, 5, 6, 7

## SIP8
designator J?
jointbar
footprint SIP8-2.0
footprint SIP8-2.54
pins: 1, 2, 3, 4, 5, 6, 7, 8

## SIP9
designator J?
jointbar
footprint SIP9-2.0
footprint SIP9-2.54
pins: 1, 2, 3, 4, 5, 6, 7, 8, 9

## SIP10
designator J?
jointbar
footprint SIP10-2.54
pins: 1, 2, 3, 4, 5, 6, 7, 8, 9, 10

## SIP12
designator J?
jointbar
footprint SIP12-2.54
pins: 1, 2, 3, 4, 5, 6, 7, 8, 9, 10, 11, 12

## SIP14
designator J?
jointbar
footprint SIP14-2.54
pins: 1, 2, 3, 4, 5, 6, 7, 8, 9, 10, 11, 12, 13, 14

## SIP16
designator J?
jointbar
footprint SIP16-2.54
pins: 1, 2, 3, 4, 5, 6, 7, 8, 9, 10, 11, 12, 13, 14, 15, 16

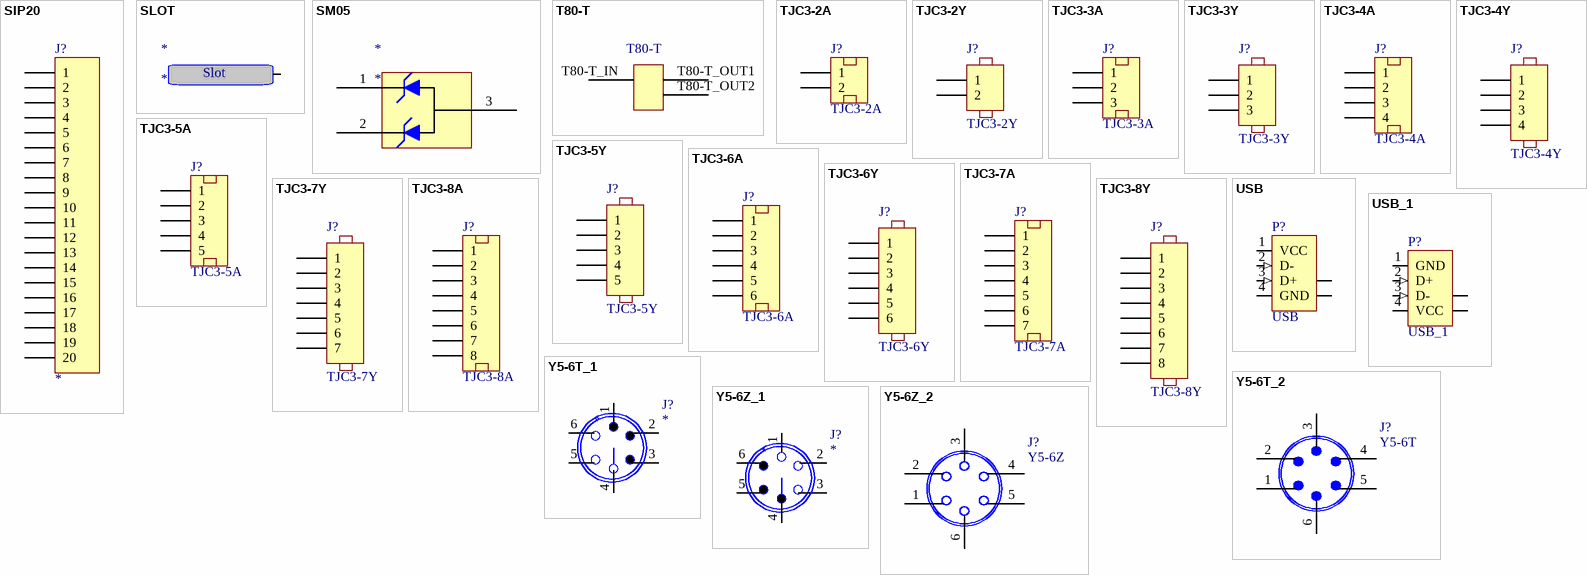
[diagram p4: symbols SIP20 to Y5-6Z_2]

## SIP20
designator J?
jointbar
footprint SIP20-2.54
pins: 1, 2, 3, 4, 5, 6, 7, 8, 9, 10, 11, 12, 13, 14, 15, 16, 17, 18, 19, 20

## SLOT
designator *
footprint SLOTCONER100MIL
footprint SLOT500MIL
footprint SLOT400MIL
footprint SLOT300MIL
footprint SLOT200MIL
footprint SLOT100MIL
pins: 0
text: Slot

## SM05
designator *
footprint SOT-23
pins: 1, 2, 3

## T80-T
designator T80-T  (value not drawn)
footprint T80-T
pins: T80-T_IN, T80-T_OUT1, T80-T_OUT2

## TJC3-2A
designator J?
Set Position: 0.5; Published: 8-Jun-2000; LatestRevisionDate: 17-Jul-2002; LatestRevisionNote: Re-released for DXP Platform.; PackageReference: AXIAL-0.6; Publisher: Altium Limited
simulation model VRES (Variable Resistor)
signal-integrity model Res Adj
footprint TJC3-2A
pins: 1, 2

## TJC3-2Y
designator J?
Set Position: 0.5; Published: 8-Jun-2000; LatestRevisionDate: 17-Jul-2002; LatestRevisionNote: Re-released for DXP Platform.; PackageReference: AXIAL-0.6; Publisher: Altium Limited
footprint AXIAL-0.6 (Variable Resistor; 2 Leads)
simulation model VRES (Variable Resistor)
signal-integrity model Res Adj
pins: 1, 2

## TJC3-3A
designator J?
Set Position: 0.5; Published: 8-Jun-2000; LatestRevisionDate: 17-Jul-2002; LatestRevisionNote: Re-released for DXP Platform.; PackageReference: AXIAL-0.6; Publisher: Altium Limited
simulation model VRES (Variable Resistor)
signal-integrity model Res Adj
footprint TJC3-3A
pins: 1, 2, 3

## TJC3-3Y
designator J?
Set Position: 0.5; Published: 8-Jun-2000; LatestRevisionDate: 17-Jul-2002; LatestRevisionNote: Re-released for DXP Platform.; PackageReference: AXIAL-0.6; Publisher: Altium Limited
footprint AXIAL-0.6 (Variable Resistor; 2 Leads)
simulation model VRES (Variable Resistor)
signal-integrity model Res Adj
pins: 1, 2, 3

## TJC3-4A
designator J?
Set Position: 0.5; Published: 8-Jun-2000; LatestRevisionDate: 17-Jul-2002; LatestRevisionNote: Re-released for DXP Platform.; PackageReference: AXIAL-0.6; Publisher: Altium Limited
simulation model VRES (Variable Resistor)
signal-integrity model Res Adj
footprint TJC3-4A
pins: 1, 2, 3, 4

## TJC3-4Y
designator J?
Set Position: 0.5; Published: 8-Jun-2000; LatestRevisionDate: 17-Jul-2002; LatestRevisionNote: Re-released for DXP Platform.; PackageReference: AXIAL-0.6; Publisher: Altium Limited
footprint AXIAL-0.6 (Variable Resistor; 2 Leads)
simulation model VRES (Variable Resistor)
signal-integrity model Res Adj
pins: 1, 2, 3, 4

## TJC3-5A
designator J?
Set Position: 0.5; Published: 8-Jun-2000; LatestRevisionDate: 17-Jul-2002; LatestRevisionNote: Re-released for DXP Platform.; PackageReference: AXIAL-0.6; Publisher: Altium Limited
simulation model VRES (Variable Resistor)
signal-integrity model Res Adj
footprint TJC3-5A
pins: 1, 2, 3, 4, 5

## TJC3-5Y
designator J?
Set Position: 0.5; Published: 8-Jun-2000; LatestRevisionDate: 17-Jul-2002; LatestRevisionNote: Re-released for DXP Platform.; PackageReference: AXIAL-0.6; Publisher: Altium Limited
footprint AXIAL-0.6 (Variable Resistor; 2 Leads)
simulation model VRES (Variable Resistor)
signal-integrity model Res Adj
pins: 1, 2, 3, 4, 5

## TJC3-6A
designator J?
Set Position: 0.5; Published: 8-Jun-2000; LatestRevisionDate: 17-Jul-2002; LatestRevisionNote: Re-released for DXP Platform.; PackageReference: AXIAL-0.6; Publisher: Altium Limited
simulation model VRES (Variable Resistor)
signal-integrity model Res Adj
footprint TJC3-6A
pins: 1, 2, 3, 4, 5, 6

## TJC3-6Y
designator J?
Set Position: 0.5; Published: 8-Jun-2000; LatestRevisionDate: 17-Jul-2002; LatestRevisionNote: Re-released for DXP Platform.; PackageReference: AXIAL-0.6; Publisher: Altium Limited
footprint AXIAL-0.6 (Variable Resistor; 2 Leads)
simulation model VRES (Variable Resistor)
signal-integrity model Res Adj
pins: 1, 2, 3, 4, 5, 6

## TJC3-7A
designator J?
Set Position: 0.5; Published: 8-Jun-2000; LatestRevisionDate: 17-Jul-2002; LatestRevisionNote: Re-released for DXP Platform.; PackageReference: AXIAL-0.6; Publisher: Altium Limited
simulation model VRES (Variable Resistor)
signal-integrity model Res Adj
footprint TJC3-7A
pins: 1, 2, 3, 4, 5, 6, 7

## TJC3-7Y
designator J?
Set Position: 0.5; Published: 8-Jun-2000; LatestRevisionDate: 17-Jul-2002; LatestRevisionNote: Re-released for DXP Platform.; PackageReference: AXIAL-0.6; Publisher: Altium Limited
footprint AXIAL-0.6 (Variable Resistor; 2 Leads)
simulation model VRES (Variable Resistor)
signal-integrity model Res Adj
pins: 1, 2, 3, 4, 5, 6, 7

## TJC3-8A
designator J?
Set Position: 0.5; Published: 8-Jun-2000; LatestRevisionDate: 17-Jul-2002; LatestRevisionNote: Re-released for DXP Platform.; PackageReference: AXIAL-0.6; Publisher: Altium Limited
footprint AXIAL-0.6 (Variable Resistor; 2 Leads)
simulation model VRES (Variable Resistor)
signal-integrity model Res Adj
pins: 1, 2, 3, 4, 5, 6, 7, 8

## TJC3-8Y
designator J?
Set Position: 0.5; Published: 8-Jun-2000; LatestRevisionDate: 17-Jul-2002; LatestRevisionNote: Re-released for DXP Platform.; PackageReference: AXIAL-0.6; Publisher: Altium Limited
footprint AXIAL-0.6 (Variable Resistor; 2 Leads)
simulation model VRES (Variable Resistor)
signal-integrity model Res Adj
pins: 1, 2, 3, 4, 5, 6, 7, 8

## USB
designator P?
USB 1.1, Right Angle, SMT, A Type, Plug, 4 Position, Natural; ContactMaterial: Brass; ContactPlating: Gold (30) over Nickel (50); PCB_Layout: Complies with manufacturer's recommendation.; DrillSize: Corresponds to nominal value.; PanelGround: Without; Published: 15-Jul-2004; DatasheetDocument: 21-Jan-2003; PackageDocument: 21-Jan-2003; PackageReference: 1470695A; Publisher: Altium Limited; HousingMaterial: Thermoplastic; ComponentLink1Description: Manufacturer Link; ComponentLink1URL: http://www.tycoelectronics.com/; ComponentLink2Description: Packaging Specification; ComponentLink2URL: http://ecommas.tycoelectronics.com/commerce/DocumentDelivery/DDEController?Action=showdoc&DocId=Customer+Drawing%7F1470695%7FO%7Fpdf%7FEnglish%7FC_1470695_O.pdf
footprint USB01 (Connector; USB1.1, Type A, SM; 4 Position; Right Angle)
signal-integrity model USB1.1
pins: 1 VCC (power) "Power", 2 D- (in) "-DATA", 3 D+ (in) "+DATA", 4 GND (power) "Ground", 5 SHLD "Shield", 6 SHLD "Shield"

## USB_1
designator P?
USB 1.1, Right Angle, SMT, A Type, Plug, 4 Position, Natural; ContactMaterial: Brass; ContactPlating: Gold (30) over Nickel (50); PCB_Layout: Complies with manufacturer's recommendation.; DrillSize: Corresponds to nominal value.; PanelGround: Without; Published: 15-Jul-2004; DatasheetDocument: 21-Jan-2003; PackageDocument: 21-Jan-2003; PackageReference: 1470695A; Publisher: Altium Limited; HousingMaterial: Thermoplastic; ComponentLink1Description: Manufacturer Link; ComponentLink1URL: http://www.tycoelectronics.com/; ComponentLink2Description: Packaging Specification; ComponentLink2URL: http://ecommas.tycoelectronics.com/commerce/DocumentDelivery/DDEController?Action=showdoc&DocId=Customer+Drawing%7F1470695%7FO%7Fpdf%7FEnglish%7FC_1470695_O.pdf
footprint USB01 (Connector; USB1.1, Type A, SM; 4 Position; Right Angle)
signal-integrity model USB1.1
pins: 1 GND (power) "Power", 2 D+ (in) "-DATA", 3 D- (in) "+DATA", 4 VCC (power) "Ground", 5 SHLD "Shield", 6 SHLD "Shield"

## Y5-6T_1
designator J?
jointbar
pins: 1, 2, 3, 4, 5, 6

## Y5-6T_2
designator J?, comment Y5-6T
Set Position: 0.5; Published: 8-Jun-2000; LatestRevisionDate: 17-Jul-2002; LatestRevisionNote: Re-released for DXP Platform.; PackageReference: AXIAL-0.6; Publisher: Altium Limited
footprint AXIAL-0.6 (Variable Resistor; 2 Leads)
simulation model VRES (Variable Resistor)
signal-integrity model Res Adj
pins: 1, 2, 3, 4, 5, 6

## Y5-6Z_1
designator J?
jointbar
pins: 1, 2, 3, 4, 5, 6

## Y5-6Z_2
designator J?, comment Y5-6Z
Set Position: 0.5; Published: 8-Jun-2000; LatestRevisionDate: 17-Jul-2002; LatestRevisionNote: Re-released for DXP Platform.; PackageReference: AXIAL-0.6; Publisher: Altium Limited
footprint AXIAL-0.6 (Variable Resistor; 2 Leads)
simulation model VRES (Variable Resistor)
signal-integrity model Res Adj
pins: 1, 2, 3, 4, 5, 6